# Altium footprint library Nolden_Power_Board_V2.PcbLib: 9 footprints
Each footprint in its own frame and in the unit in brackets; x right, y up, seen from the top. Pads: shape width x height; smd on the part's side, far side on the other; paste and mask are expansions set on the pad; w line width, h text height; cw(c..) or ccw(c..) is an arc to the next point about the centre after c.
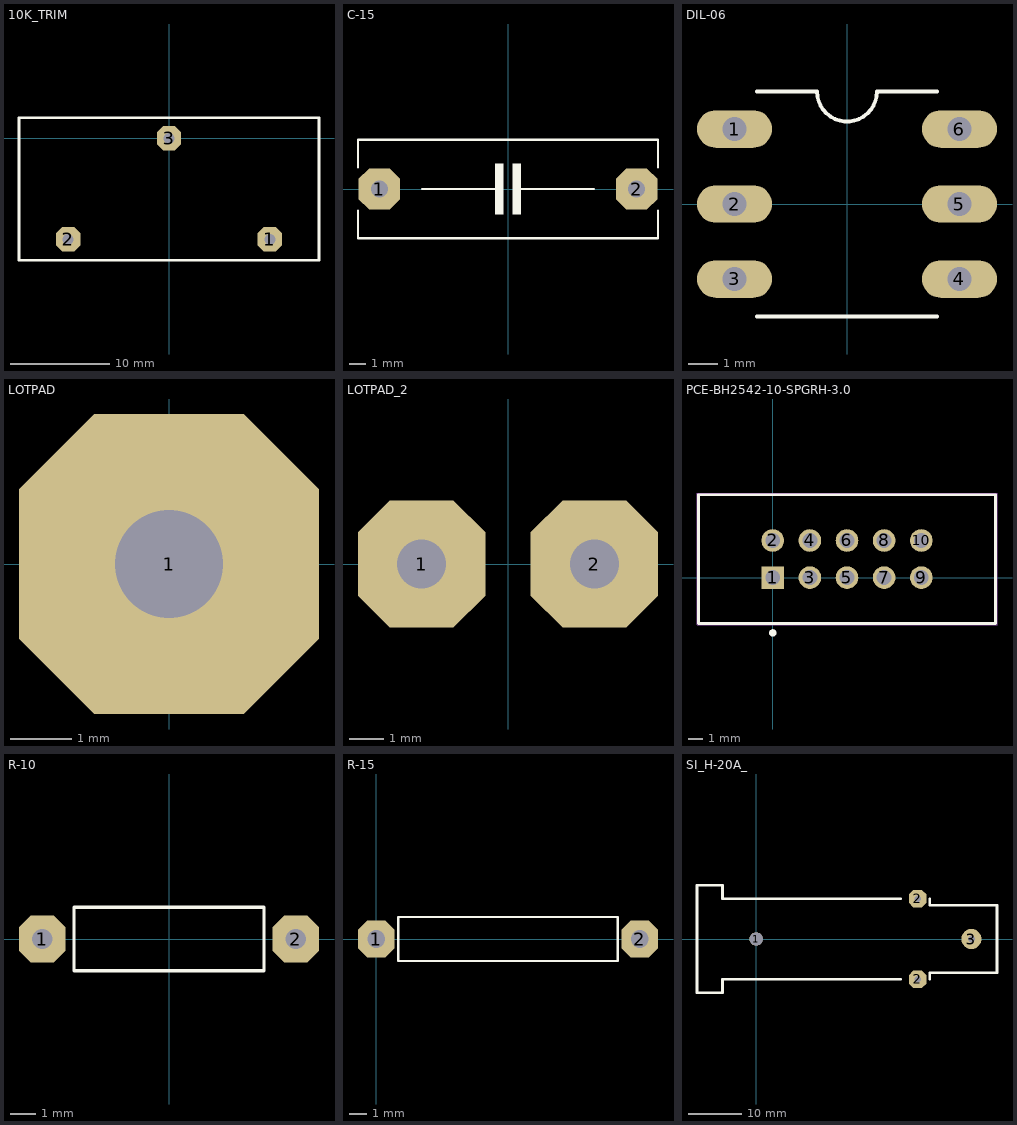
[diagram p0: the footprints below, top view; thin cyan lines are the x and y axes]

## 10K_TRIM [mil]
pads (3):
  oct 96.82x96.82 hole 43.31: 1(400,-400) 2(-400,-400) 3(0,0)
Top Overlay:
  lines w10: -594.49,-481.89 594.49,-481.89 594.49,81.1 -594.49,81.1 -594.49,-481.89
3D body "Talema AC1025.STEP": height 1224.41, standoff -200.79, extent -598.48,-478.49 590.49,84.5

## C-15 [mil]
pads (2):
  oct 96.82x96.82 hole 40: 1(-300,0) 2(300,0)
Top Overlay:
  rectangle: 10,-60 30,60
  rectangle: -30,-60 -10,60
  lines w5: -350,-50 -350,-115 350,-115 350,-50 ; -350,50 -350,115 350,115 350,50 ; -200,0 -20,0 ; 25,0 200,0
3D body "Capacitor CAPRR1500W80L1800T600H1250_WIMA_4C.STEP": height 497.28, standoff -93.27, extent -354.33,-118.11 354.33,118.11

## DIL-06 [mil]
pads (6):
  oval 100x50 hole 32: 1(-150,100) 2(-150,0) 3(-150,-100) 4(150,-100) 5(150,0) 6(150,100)
Top Overlay:
  lines w5: -120,-150 120,-150 ; -120,150 -40,150 ccw(c0,150) 40,150 120,150
3D body "DIP06-300.step": height 208.66, standoff -98.03, extent -155.11,-173.23 155.12,173.23

## LOTPAD [mil]
pads (1):
  oct 193.65x193.65 hole 70: 1(0,0)

## LOTPAD_2 [mil]
pads (2):
  oct 145.24x145.24 hole 56: 1(-98.43,0) 2(98.43,0)
3D body "Cabel_Holder.STEP": height 236.22, standoff -118.11, extent -118.11,-13.78 118.11,13.78

## PCE-BH2542-10-SPGRH-3.0 [mm]
pads (10):
  rect 1.55x1.55 hole 1.02: 1(0,0)
  round 1.55 hole 1.02: 2(0,2.54) 3(2.54,0) 4(2.54,2.54) 5(5.08,0) 6(5.08,2.54) 7(7.62,0) 8(7.62,2.54) 9(10.16,0) 10(10.16,2.54)
Top Overlay:
  circle w0.25: c0,-3.78 r0.125
  lines w0.2: -5.08,-3.13 15.24,-3.13 15.24,5.67 -5.08,5.67 -5.08,-3.13
Mechanical 13:
  lines w0.1: -5.08,-3.13 15.24,-3.13 15.24,5.67 -5.08,5.67 -5.08,-3.13
Mechanical 15:
  lines w0.05: -5.18,-3.23 15.34,-3.23 15.34,5.77 -5.18,5.77 -5.18,-3.23
3D body: height 9, standoff 0, extent -5.08,5.37 15.24,5.67
3D body: height 9, standoff 0, extent 14.94,3.27 15.24,5.67
3D body: height 9, standoff 0, extent 14.94,-3.13 15.24,-0.73
3D body: height 9, standoff 0, extent -5.08,3.27 -4.78,5.67
3D body: height 9, standoff 0, extent -5.08,-3.13 -4.78,-0.73
3D body: height 9, standoff -3, extent 9.763,2.141 10.56,2.939
3D body: height 9, standoff -3, extent 7.223,2.141 8.02,2.939
3D body: height 9, standoff -3, extent 4.683,2.141 5.48,2.939
3D body: height 9, standoff -3, extent 2.143,2.141 2.94,2.939
3D body: height 9, standoff -3, extent -0.397,2.141 0.4,2.939
3D body: height 9, standoff -3, extent -0.397,-0.399 0.4,0.399
3D body: height 9, standoff -3, extent 2.143,-0.399 2.94,0.399
3D body: height 9, standoff -3, extent 4.683,-0.399 5.48,0.399
3D body: height 9, standoff -3, extent 7.223,-0.399 8.02,0.399
3D body: height 9, standoff -3, extent 9.763,-0.399 10.56,0.399
3D body: height 9, standoff 0, extent 7.28,-3.13 15.24,-2.83
3D body: height 9, standoff 0, extent -5.08,-3.13 2.88,-2.83
3D body: height 3, standoff 0, extent 2.88,-3.13 7.28,-2.83
3D body: height 9, standoff 7, extent -5.08,-0.73 -4.78,3.27
3D body: height 9, standoff 7, extent 14.94,-0.73 15.24,3.27
3D body: height 1, standoff 0, extent -4.78,-2.832 14.942,5.375
3D body "User Library-BH_10_V.STEP": height 9, standoff -3, extent -5.055,-3.277 15.265,5.823

## R-10 [mil]
pads (2):
  oct 73.59x73.59 hole 32: 1(-200,0) 2(200,0)
Top Overlay:
  lines w5: -150,-50 150,-50 150,0 150,50 -150,50 -150,0 -150,-50
3D body "Res40-Axial 0_25W-0_15R.step": height 105, standoff -68.74, extent -211.81,-47.24 211.81,47.25

## R-15 [mil]
pads (2):
  oct 83.27x83.27 hole 40: 1(0,0) 2(600,0)
Top Overlay:
  lines w5: 50,-50 50,50 550,50 550,-50 50,-50
3D body "Res CCF60_10K0_bend.STEP": height 157.72, standoff -126.73, extent -13.58,-73.81 613.59,73.82

## SI_H-20A_ [mil]
pads (4):
  round 100 hole 100: 1(0,0)
  oct 130x130 hole 50: 2(1200,-300) 2(1200,300)
  round 150 hole 50: 3(1600,0)
Top Overlay:
  lines w19.69: 1075,-300 -250,-300 -250,-400 -440,-400 -440,400 -250,400 -250,300 1075,300 ; 1290,-300 1290,-250 1790,-250 1790,250 1290,250 1290,300
3D body "FUP_1.STEP": height 774.02, standoff -186.61, extent -475.31,-373 1693.98,375.03